# Altium schematic symbol library sim800l.SchLib: 1 symbol
Pins are listed as number, name and electrical type; pins without a type are passive.

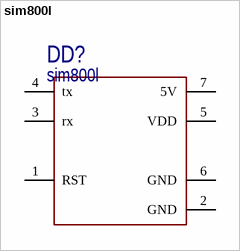
[diagram p0: symbol sim800l]

## sim800l
designator DD?
pins: 1 RST, 2 GND, 3 rx, 4 tx, 5 VDD, 6 GND, 7 5V